# Altium footprint library aiskylab-15Transformers.PcbLib: 7 footprints
Each footprint in its own frame and in the unit in brackets; x right, y up, seen from the top. Pads: shape width x height; smd on the part's side, far side on the other; paste and mask are expansions set on the pad; w line width, h text height; cw(c..) or ccw(c..) is an arc to the next point about the centre after c.
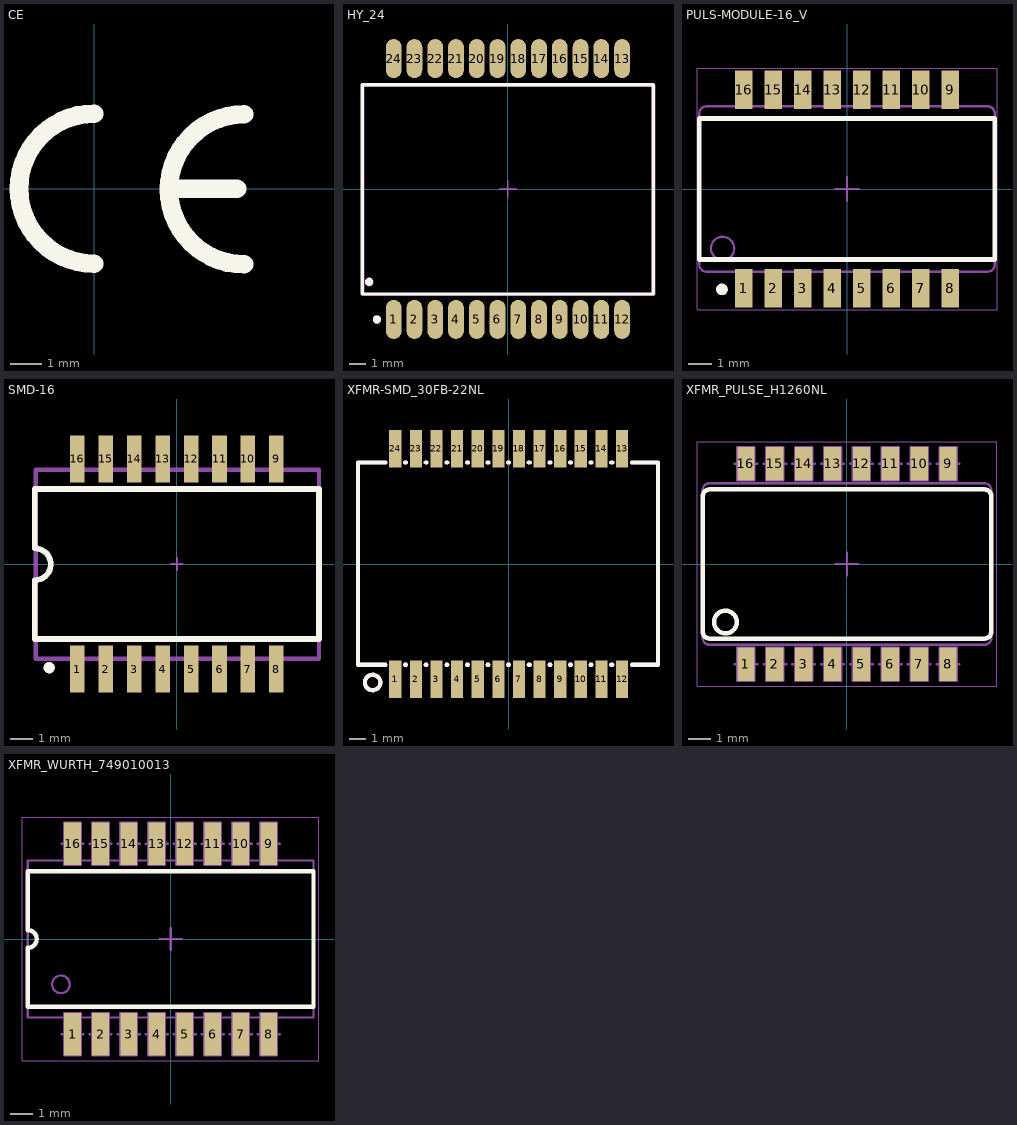
[diagram p0: the footprints below, top view; thin cyan lines are the x and y axes]

## CE [mm]
Top Overlay:
  lines w0.6: 0,-2.413 cw(c0,0) 0,2.413 ; 2.53,0 4.6,0 ; 4.826,-2.438 cw(c4.826,-0.025) 4.826,2.388
Top Designator:
  text ".Designator" at -6.417,-0.514 h1.52
3D body "ce.stp": height 0.02, standoff 0, extent -2.725,-2.725 4.82,2.725

## HY_24 [mm]
height 38.1
pads (24):
  oval 0.96x2.4 smd mask+0.07: 1(-6.985,-7.975) 3(-4.445,-7.975) 4(-3.175,-7.975) 5(-1.905,-7.975) 6(-0.635,-7.975) 7(0.635,-7.975) 8(1.905,-7.975) 9(3.175,-7.975) 10(4.445,-7.975) 11(5.715,-7.975) 12(6.985,-7.975) 13(6.985,7.975) 14(5.715,7.975) 15(4.445,7.975) 16(3.175,7.975) 17(1.905,7.975) 18(0.635,7.975) 19(-0.635,7.975) 20(-1.905,7.975) 21(-3.175,7.975) 22(-4.445,7.975) 23(-5.715,7.975) 24(-6.985,7.975)
  oval 0.96x2.4 smd: 2(-5.715,-7.975)
Top Overlay:
  circle w0.25: c-8.015,-7.975 r0.125
  circle w0.25: c-8.49,-5.675 r0.125
  lines w0.2: -8.9,-6.425 -8.9,6.375 8.9,6.375 8.9,-6.425 -8.9,-6.425
Top Assembly:
  circle w0.25: c-8,-8 r0.125
  circle w0.25: c-8.475,-5.7 r0.125
  lines w0.2: -8.885,-6.45 -8.885,6.35 8.915,6.35 8.915,-6.45 -8.885,-6.45
Top Component Center:
  lines w0.1: -0.5,0 0,0 ; 0,-0.5 0,0 ; 0,0.5 0,0 ; 0.5,0 0,0
3D body "0_95-2_44.stp": height 0.02, standoff 0, extent -7.465,6.775 -6.505,9.175
3D body "0_95-2_44.stp": height 0.02, standoff 0, extent -6.195,6.775 -5.235,9.175
3D body "0_95-2_44.stp": height 0.02, standoff 0, extent -4.925,6.775 -3.965,9.175
3D body "0_95-2_44.stp": height 0.02, standoff 0, extent -3.655,6.775 -2.695,9.175
3D body "0_95-2_44.stp": height 0.02, standoff 0, extent -2.385,6.775 -1.425,9.175
3D body "0_95-2_44.stp": height 0.02, standoff 0, extent -1.115,6.775 -0.155,9.175
3D body "0_95-2_44.stp": height 0.02, standoff 0, extent 0.155,6.775 1.115,9.175
3D body "0_95-2_44.stp": height 0.02, standoff 0, extent 1.425,6.775 2.385,9.175
3D body "0_95-2_44.stp": height 0.02, standoff 0, extent 2.695,6.775 3.655,9.175
3D body "0_95-2_44.stp": height 0.02, standoff 0, extent 3.965,6.775 4.925,9.175
3D body "0_95-2_44.stp": height 0.02, standoff 0, extent 5.235,6.775 6.195,9.175
3D body "0_95-2_44.stp": height 0.02, standoff 0, extent 6.505,6.775 7.465,9.175
3D body "0_95-2_44.stp": height 0.02, standoff 0, extent -7.465,-9.175 -6.505,-6.775
3D body "0_95-2_44.stp": height 0.02, standoff 0, extent -6.195,-9.175 -5.235,-6.775
3D body "0_95-2_44.stp": height 0.02, standoff 0, extent -4.925,-9.175 -3.965,-6.775
3D body "0_95-2_44.stp": height 0.02, standoff 0, extent -3.655,-9.175 -2.695,-6.775
3D body "0_95-2_44.stp": height 0.02, standoff 0, extent -2.385,-9.175 -1.425,-6.775
3D body "0_95-2_44.stp": height 0.02, standoff 0, extent -1.115,-9.175 -0.155,-6.775
3D body "0_95-2_44.stp": height 0.02, standoff 0, extent 0.155,-9.175 1.115,-6.775
3D body "0_95-2_44.stp": height 0.02, standoff 0, extent 1.425,-9.175 2.385,-6.775
3D body "0_95-2_44.stp": height 0.02, standoff 0, extent 2.695,-9.175 3.655,-6.775
3D body "0_95-2_44.stp": height 0.02, standoff 0, extent 3.965,-9.175 4.925,-6.775
3D body "0_95-2_44.stp": height 0.02, standoff 0, extent 5.235,-9.175 6.195,-6.775
3D body "0_95-2_44.stp": height 0.02, standoff 0, extent 6.505,-9.175 7.465,-6.775
3D body "hy682405.stp": height 3.25, standoff 0, extent -8.9,-7.92 8.9,7.92

## PULS-MODULE-16_V [mm] "SOIC, 16-Leads, Body 12.7x7.11mm, Pitch 1.27mm"
height 5.97
pads (16):
  rect 0.76x1.67 smd paste+0: 1(-4.445,-4.265) 2(-3.175,-4.265) 3(-1.905,-4.265) 4(-0.635,-4.265) 5(0.635,-4.265) 6(1.905,-4.265) 7(3.175,-4.265) 8(4.445,-4.265) 9(4.445,4.265) 10(3.175,4.265) 11(1.905,4.265) 12(0.635,4.265) 13(-0.635,4.265) 14(-1.905,4.265) 15(-3.175,4.265) 16(-4.445,4.265)
Top Overlay:
  circle w0.25: c-5.377,-4.318 r0.125
  lines w0.2: -6.35,-3.03 -6.35,3.03 6.35,3.03 6.35,-3.03 -6.35,-3.03
Top Designator:
  text ".Designator" at -7.618,-0.508 h1.52
Top Assembly:
  circle w0.1: c-5.35,-2.555 r0.5
  lines w0.1: -6.35,-3.255 ccw(c-6.05,-3.255) -6.05,-3.555 6.05,-3.555 ccw(c6.05,-3.255) 6.35,-3.255 6.35,3.255 ccw(c6.05,3.255) 6.05,3.555 -6.05,3.555 ccw(c-6.05,3.255) -6.35,3.255 -6.35,-3.255
Top Component Center:
  lines w0.1: -0.5,0 0.5,0 ; 0,-0.5 0,0.5
Top Component Outline:
  lines w0.05: -6.45,-5.2 -6.45,5.2 6.45,5.2 6.45,-5.2 -6.45,-5.2
3D body "XFMR_WURTH_749010013.stp": height 5.33, standoff 0, extent -6.475,-4.7 6.475,4.7

## SMD-16 [mm] "13F-39MNL,9.40x8.89"
height 1.8
pads (16):
  rect 0.65x2.1 smd: 1(-4.445,-4.7) 2(-3.175,-4.7) 3(-1.905,-4.7) 4(-0.635,-4.7) 5(0.635,-4.7) 6(1.905,-4.7) 7(3.175,-4.7) 8(4.445,-4.7) 9(4.445,4.7) 10(3.175,4.7) 11(1.905,4.7) 12(0.635,4.7) 13(-0.635,4.7) 14(-1.905,4.7) 15(-3.175,4.7) 16(-4.445,4.7)
Top Overlay:
  circle w0.25: c-5.707,-4.632 r0.125
  lines w0.254: -6.35,-0.72 -6.35,-3.35 6.35,-3.35 6.35,3.35 -6.35,3.35 ; -6.35,0.7 cw(c-6.345,-0.01) -6.34,-0.72 ; -6.35,0.715 -6.35,3.345
Top Designator:
  text ".Designator" at -7.618,-0.508 h1.52
Top Assembly:
  circle w0.25: c-5.707,-4.632 r0.125
  lines w0.003: -0.025,0.433 0.025,0.484
  lines w0.254: -6.35,-0.72 -6.35,-3.35 6.35,-3.35 6.35,3.35 -6.35,3.35 ; -6.35,0.7 cw(c-6.345,-0.01) -6.34,-0.72 ; -6.35,0.715 -6.35,3.345
Top Component Center:
  lines w0.1: -0.254,0 0.254,0 ; 0,-0.254 0,0.254
Top 3D Body:
  lines w0.2: -6.299,-4.226 6.35,-4.226 6.35,4.207 -6.299,4.207 -6.299,-4.226
Bottom 3D Body:
  lines w0.003: -0.025,0.433 0.025,0.484
3D body: height 1, standoff 0, extent -6.274,-4.201 6.35,4.169
3D body: height 0.5, standoff 0, extent -4.724,3.8 -4.166,5.274
3D body: height 0.5, standoff 0, extent -3.454,3.8 -2.896,5.274
3D body: height 0.5, standoff 0, extent -2.184,3.8 -1.626,5.274
3D body: height 0.5, standoff 0, extent -0.914,3.8 -0.356,5.274
3D body: height 0.5, standoff 0, extent 0.356,3.8 0.914,5.274
3D body: height 0.5, standoff 0, extent 1.626,3.8 2.184,5.274
3D body: height 0.5, standoff 0, extent 2.896,3.8 3.454,5.274
3D body: height 0.5, standoff 0, extent 4.166,3.8 4.724,5.274
3D body: height 0.5, standoff 0, extent -4.724,-5.191 -4.166,-3.718
3D body: height 0.5, standoff 0, extent -3.454,-5.191 -2.896,-3.718
3D body: height 0.5, standoff 0, extent -2.184,-5.191 -1.626,-3.718
3D body: height 0.5, standoff 0, extent -0.914,-5.191 -0.356,-3.718
3D body: height 0.5, standoff 0, extent 0.356,-5.191 0.914,-3.718
3D body: height 0.5, standoff 0, extent 1.626,-5.191 2.184,-3.718
3D body: height 0.5, standoff 0, extent 2.896,-5.191 3.454,-3.718
3D body: height 0.5, standoff 0, extent 4.166,-5.191 4.724,-3.718

## XFMR-SMD_30FB-22NL [mm]
pads (24):
  rect 0.75x2.3 smd: 1(-6.985,-7.1) 2(-5.715,-7.1) 3(-4.445,-7.1) 4(-3.175,-7.1) 5(-1.905,-7.1) 6(-0.635,-7.1) 7(0.635,-7.1) 8(1.905,-7.1) 9(3.175,-7.1) 10(4.445,-7.1) 11(5.715,-7.1) 12(6.985,-7.1) 13(6.985,7.1) 14(5.715,7.1) 15(4.445,7.1) 16(3.175,7.1) 17(1.907,7.1) 18(0.635,7.1) 19(-0.635,7.1) 20(-1.905,7.1) 21(-3.175,7.1) 22(-4.445,7.1) 23(-5.715,7.1) 24(-6.985,7.1)
Top Overlay:
  circle w0.254: c-8.38,-7.3 r0.475
  lines w0.254: -9.28,-6.21 -7.591,-6.21 ; -9.27,-6.16 -9.27,6.25 -7.591,6.25 ; -6.379,-6.21 -6.321,-6.21 ; -6.379,6.25 -6.321,6.25 ; -5.109,-6.21 -5.051,-6.21 ; -5.109,6.25 -5.051,6.25 ; -3.839,-6.21 -3.781,-6.21 ; -3.839,6.25 -3.781,6.25 ; -2.569,-6.21 -2.511,-6.21 ; -2.569,6.25 -2.511,6.25 ; -1.299,-6.21 -1.241,-6.21 ; -1.299,6.25 -1.241,6.25 ; -0.029,-6.21 0.029,-6.21 ; -0.029,6.25 0.029,6.25 ; 1.241,-6.21 1.299,-6.21 ; 1.241,6.25 1.3,6.25 ; 2.511,-6.21 2.569,-6.21 ; 2.513,6.25 2.569,6.25 ; 3.781,-6.21 3.839,-6.21 ; 3.781,6.25 3.839,6.25 ; 5.051,-6.21 5.109,-6.21 ; 5.051,6.25 5.109,6.25 ; 6.321,-6.21 6.379,-6.21 ; 6.321,6.25 6.379,6.25 ; 7.591,-6.21 9.2,-6.21 9.2,6.25 7.591,6.25
Top Assembly:
  circle w0.254: c-8.38,-7.3 r0.475
  lines w0.254: -9.28,-6.21 -7.591,-6.21 ; -9.27,-6.16 -9.27,6.25 -7.591,6.25 ; -6.379,-6.21 -6.321,-6.21 ; -6.379,6.25 -6.321,6.25 ; -5.109,-6.21 -5.051,-6.21 ; -5.109,6.25 -5.051,6.25 ; -3.839,-6.21 -3.781,-6.21 ; -3.839,6.25 -3.781,6.25 ; -2.569,-6.21 -2.511,-6.21 ; -2.569,6.25 -2.511,6.25 ; -1.299,-6.21 -1.241,-6.21 ; -1.299,6.25 -1.241,6.25 ; -0.029,-6.21 0.029,-6.21 ; -0.029,6.25 0.029,6.25 ; 1.241,-6.21 1.299,-6.21 ; 1.241,6.25 1.3,6.25 ; 2.511,-6.21 2.569,-6.21 ; 2.513,6.25 2.569,6.25 ; 3.781,-6.21 3.839,-6.21 ; 3.781,6.25 3.839,6.25 ; 5.051,-6.21 5.109,-6.21 ; 5.051,6.25 5.109,6.25 ; 6.321,-6.21 6.379,-6.21 ; 6.321,6.25 6.379,6.25 ; 7.591,-6.21 9.2,-6.21 9.2,6.25 7.591,6.25
3D body: height 6.45, standoff 0.2, extent -9.25,-7 9.25,7.25
3D body: height 6.48, standoff 6.4, extent -8.496,-5.749 -7.5,-4.751

## XFMR_PULSE_H1260NL [mm] "10/100BASE-T Transformer Modules, Body 7.11 x 12.7mm"
height 6
pads (16):
  rect 0.76x1.46 smd: 1(-4.445,-4.41) 2(-3.175,-4.41) 3(-1.905,-4.41) 4(-0.635,-4.41) 5(0.635,-4.41) 6(1.905,-4.41) 7(3.175,-4.41) 8(4.445,-4.41) 9(4.445,4.41) 10(3.175,4.41) 11(1.905,4.41) 12(0.635,4.41) 13(-0.635,4.41) 14(-1.905,4.41) 15(-3.175,4.41) 16(-4.445,4.41)
Top Overlay:
  circle w0.2: c-5.35,-2.555 r0.5
  lines w0.2: -6.35,-2.98 ccw(c-6.05,-2.98) -6.05,-3.28 6.05,-3.28 ccw(c6.05,-2.98) 6.35,-2.98 6.35,2.98 ccw(c6.05,2.98) 6.05,3.28 -6.05,3.28 ccw(c-6.05,2.98) -6.35,2.98 -6.35,-2.98
Top Component Center:
  lines w0.1: -0.5,0 0,0 ; 0,-0.5 0,0 ; 0,0.5 0,0 ; 0.5,0 0,0
Top Dimensions:
  lines w0.1: -4.945,-4.41 -4.445,-4.41 ; -4.945,4.41 -4.445,4.41 ; -4.445,-4.91 -4.445,-4.41 ; -4.445,-3.91 -4.445,-4.41 ; -4.445,3.91 -4.445,4.41 ; -4.445,4.91 -4.445,4.41 ; -3.945,-4.41 -4.445,-4.41 ; -3.945,4.41 -4.445,4.41 ; -3.675,-4.41 -3.175,-4.41 ; -3.675,4.41 -3.175,4.41 ; -3.175,-4.91 -3.175,-4.41 ; -3.175,-3.91 -3.175,-4.41 ; -3.175,3.91 -3.175,4.41 ; -3.175,4.91 -3.175,4.41 ; -2.675,-4.41 -3.175,-4.41 ; -2.675,4.41 -3.175,4.41 ; -2.405,-4.41 -1.905,-4.41 ; -2.405,4.41 -1.905,4.41 ; -1.905,-4.91 -1.905,-4.41 ; -1.905,-3.91 -1.905,-4.41 ; -1.905,3.91 -1.905,4.41 ; -1.905,4.91 -1.905,4.41 ; -1.405,-4.41 -1.905,-4.41 ; -1.405,4.41 -1.905,4.41 ; -1.135,-4.41 -0.635,-4.41 ; -1.135,4.41 -0.635,4.41 ; -0.635,-4.91 -0.635,-4.41 ; -0.635,-3.91 -0.635,-4.41 ; -0.635,3.91 -0.635,4.41 ; -0.635,4.91 -0.635,4.41 ; -0.135,-4.41 -0.635,-4.41 ; -0.135,4.41 -0.635,4.41 ; 0.135,-4.41 0.635,-4.41 ; 0.135,4.41 0.635,4.41 ; 0.635,-4.91 0.635,-4.41 ; 0.635,-3.91 0.635,-4.41 ; 0.635,3.91 0.635,4.41 ; 0.635,4.91 0.635,4.41 ; 1.135,-4.41 0.635,-4.41 ; 1.135,4.41 0.635,4.41 ; 1.405,-4.41 1.905,-4.41 ; 1.405,4.41 1.905,4.41 ; 1.905,-4.91 1.905,-4.41 ; 1.905,-3.91 1.905,-4.41 ; 1.905,3.91 1.905,4.41 ; 1.905,4.91 1.905,4.41 ; 2.405,-4.41 1.905,-4.41 ; 2.405,4.41 1.905,4.41 ; 2.675,-4.41 3.175,-4.41 ; 2.675,4.41 3.175,4.41 ; 3.175,-4.91 3.175,-4.41 ; 3.175,-3.91 3.175,-4.41 ; 3.175,3.91 3.175,4.41 ; 3.175,4.91 3.175,4.41 ; 3.675,-4.41 3.175,-4.41 ; 3.675,4.41 3.175,4.41 ; 3.945,-4.41 4.445,-4.41 ; 3.945,4.41 4.445,4.41 ; 4.445,-4.91 4.445,-4.41 ; 4.445,-3.91 4.445,-4.41 ; 4.445,3.91 4.445,4.41 ; 4.445,4.91 4.445,4.41 ; 4.945,-4.41 4.445,-4.41 ; 4.945,4.41 4.445,4.41 ; -4.825,-5.14 -4.825,-3.68 -4.065,-3.68 -4.065,-5.14 -4.825,-5.14 ; -4.825,3.68 -4.825,5.14 -4.065,5.14 -4.065,3.68 -4.825,3.68 ; -3.555,-5.14 -3.555,-3.68 -2.795,-3.68 -2.795,-5.14 -3.555,-5.14 ; -3.555,3.68 -3.555,5.14 -2.795,5.14 -2.795,3.68 -3.555,3.68 ; -2.285,-5.14 -2.285,-3.68 -1.525,-3.68 -1.525,-5.14 -2.285,-5.14 ; -2.285,3.68 -2.285,5.14 -1.525,5.14 -1.525,3.68 -2.285,3.68 ; -1.015,-5.14 -1.015,-3.68 -0.255,-3.68 -0.255,-5.14 -1.015,-5.14 ; -1.015,3.68 -1.015,5.14 -0.255,5.14 -0.255,3.68 -1.015,3.68 ; 0.255,-5.14 0.255,-3.68 1.015,-3.68 1.015,-5.14 0.255,-5.14 ; 0.255,3.68 0.255,5.14 1.015,5.14 1.015,3.68 0.255,3.68 ; 1.525,-5.14 1.525,-3.68 2.285,-3.68 2.285,-5.14 1.525,-5.14 ; 1.525,3.68 1.525,5.14 2.285,5.14 2.285,3.68 1.525,3.68 ; 2.795,-5.14 2.795,-3.68 3.555,-3.68 3.555,-5.14 2.795,-5.14 ; 2.795,3.68 2.795,5.14 3.555,5.14 3.555,3.68 2.795,3.68 ; 4.065,-5.14 4.065,-3.68 4.825,-3.68 4.825,-5.14 4.065,-5.14 ; 4.065,3.68 4.065,5.14 4.825,5.14 4.825,3.68 4.065,3.68
Top 3D Body:
  circle w0.1: c-5.35,-2.555 r0.5
  lines w0.1: -6.35,-3.255 ccw(c-6.05,-3.255) -6.05,-3.555 6.05,-3.555 ccw(c6.05,-3.255) 6.35,-3.255 6.35,3.255 ccw(c6.05,3.255) 6.05,3.555 -6.05,3.555 ccw(c-6.05,3.255) -6.35,3.255 -6.35,-3.255
Bottom 3D Body:
  lines w0.05: -6.6,-5.39 6.6,-5.39 6.6,5.39 -6.6,5.39 -6.6,-5.39
3D body "XFMR_PULSE_H1260NL.stp": height 6, standoff 0, extent -6.35,-4.775 6.35,4.775

## XFMR_WURTH_749010013 [mm] "10/100/1000 Base-Tx  LAN Transformer, Body 7.11 x 12.95mm"
height 5.33
pads (16):
  rect 0.76x1.91 smd: 1(-4.445,-4.318) 2(-3.175,-4.318) 3(-1.905,-4.318) 4(-0.635,-4.318) 5(0.635,-4.318) 6(1.905,-4.318) 7(3.175,-4.318) 8(4.445,-4.318) 9(4.445,4.318) 10(3.175,4.318) 11(1.905,4.318) 12(0.635,4.318) 13(-0.635,4.318) 14(-1.905,4.318) 15(-3.175,4.318) 16(-4.445,4.318)
Top Overlay:
  lines w0.2: -6.475,-3.063 6.475,-3.063 6.475,3.063 -6.475,3.063 -6.475,0.4 cw(c-6.475,0) -6.475,-0.4 -6.475,-3.063
Top Component Center:
  lines w0.1: -0.5,0 0,0 ; 0,-0.5 0,0 ; 0,0.5 0,0 ; 0.5,0 0,0
Top Dimensions:
  drawing of 192 lines, arcs and shapes, not listed
Top 3D Body:
  circle w0.1: c-4.975,-2.055 r0.4
  lines w0.1: -6.475,-3.555 6.475,-3.555 6.475,3.555 -6.475,3.555 -6.475,-3.555
Bottom 3D Body:
  lines w0.05: -6.725,-5.523 -6.725,5.523 6.725,5.523 6.725,-5.523 -6.725,-5.523
3D body "XFMR_WURTH_749010013.stp": height 5.33, standoff 0, extent -6.475,-4.7 6.475,4.7